# Altium footprint library PcbLib1.PcbLib: 58 footprints (part 1 of 4)
Each footprint in its own frame and in the unit in brackets; x right, y up, seen from the top. Pads: shape width x height; smd on the part's side, far side on the other; paste and mask are expansions set on the pad; w line width, h text height; cw(c..) or ccw(c..) is an arc to the next point about the centre after c.
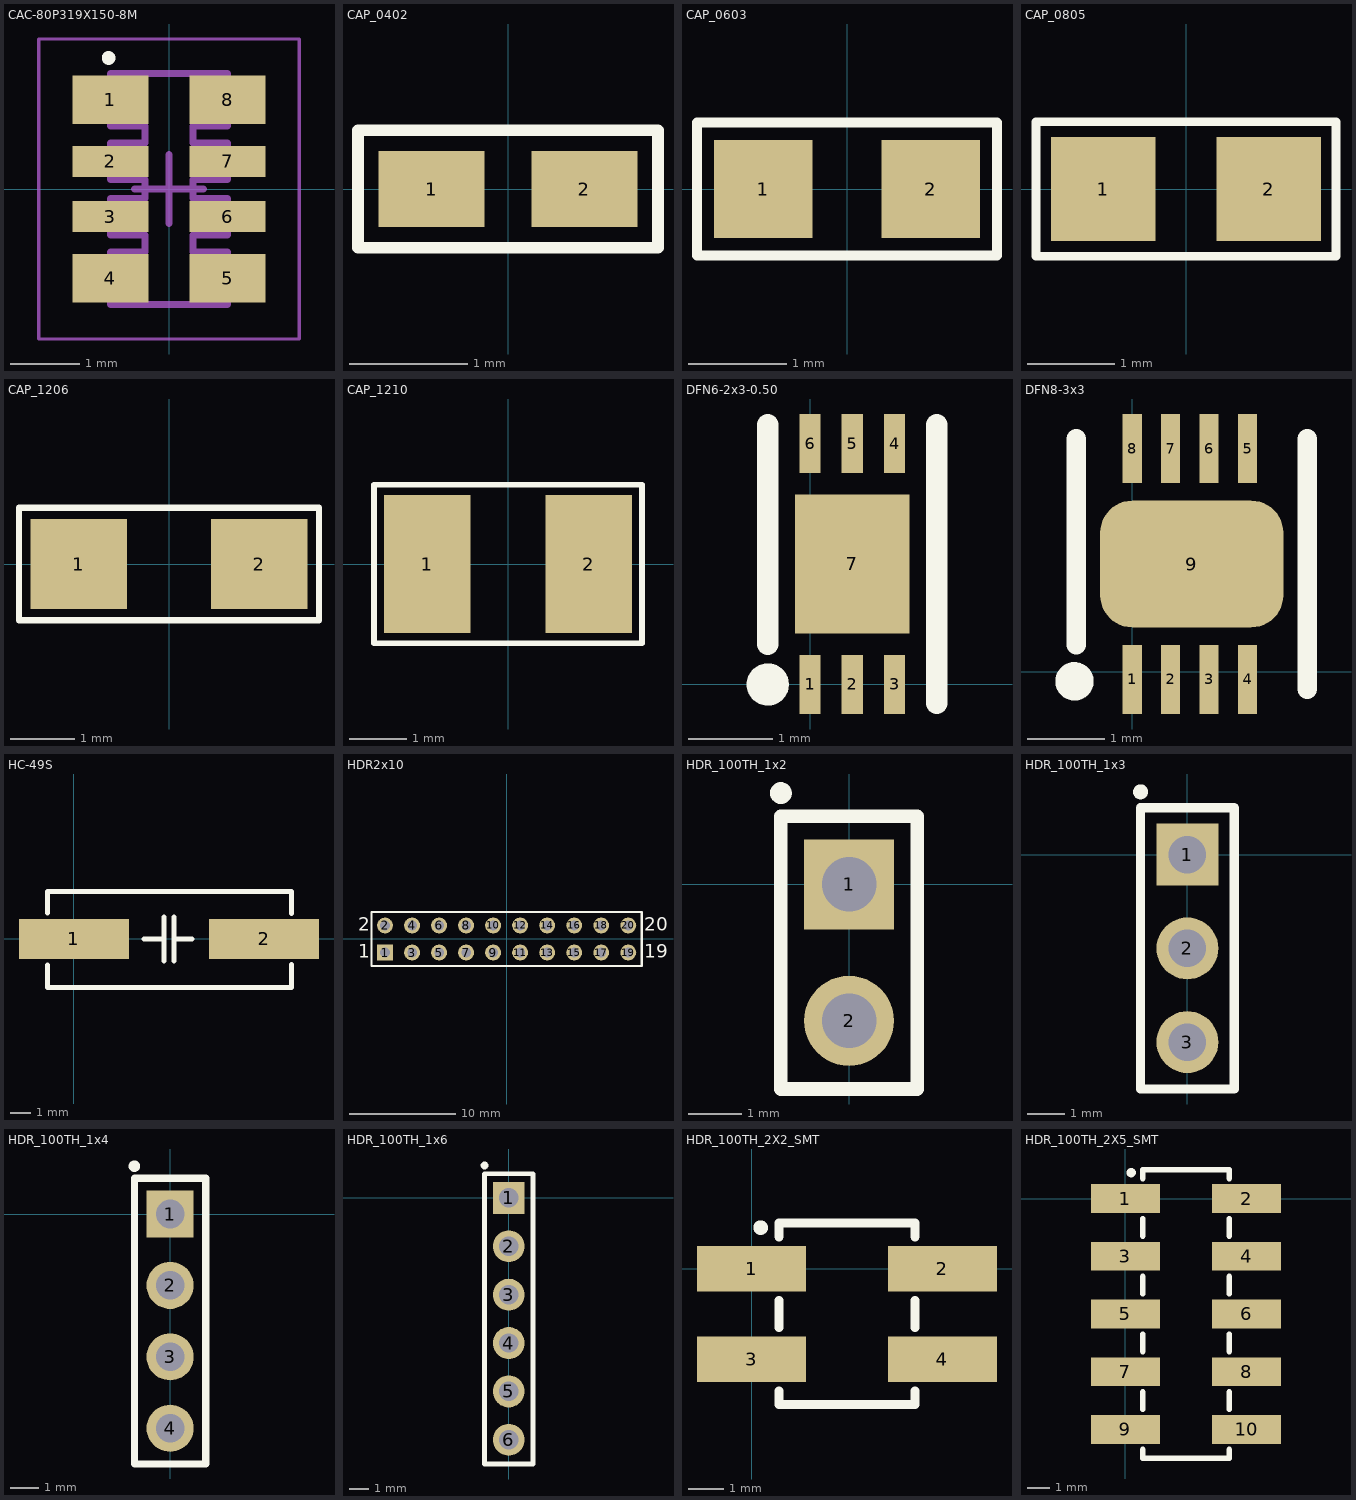
[diagram p0: the footprints below, top view; thin cyan lines are the x and y axes]

## CAC-80P319X150-8M [mm] "Chip Array, ConvexS, 8-Leads, Pitch 0.80mm,  Body 3.20x1.50mm, for Vishay CRA06S"
height 0.6
pads (8):
  rect 1.1x0.7 smd: 1(-0.85,1.295) 4(-0.85,-1.295) 5(0.85,-1.295) 8(0.85,1.295)
  rect 1.1x0.45 smd: 2(-0.85,0.4) 3(-0.85,-0.4) 6(0.85,-0.4) 7(0.85,0.4)
Top Overlay:
  circle w0.1: c-0.875,1.9 r0.05
Mechanical 13:
  lines w0.1: -0.85,-1.675 0.85,-1.675 0.85,-0.915 0.35,-0.915 0.35,-0.665 0.85,-0.665 0.85,-0.135 0.35,-0.135 0.35,0.135 0.85,0.135 0.85,0.665 0.35,0.665 0.35,0.915 0.85,0.915 0.85,1.675 -0.85,1.675 -0.85,0.915 -0.35,0.915 -0.35,0.665 -0.85,0.665 -0.85,0.135 -0.35,0.135 -0.35,-0.135 -0.85,-0.135 -0.85,-0.665 -0.35,-0.665 -0.35,-0.915 -0.85,-0.915 -0.85,-1.675
Mechanical 15:
  lines w0.05: -1.89,-2.175 1.89,-2.175 1.89,2.175 -1.89,2.175 -1.89,-2.175
  lines w0.1: -0.5,0 0.5,0 ; 0,-0.5 0,0.5
3D body: height 0.6, standoff 0, extent -0.825,-1.675 0.825,1.675

## CAP_0402 [mm]
pads (2):
  rect 0.9x0.65 smd: 1(-0.65,0) 2(0.65,0)
Top Overlay:
  lines w0.1: -1.275,-0.5 1.275,-0.5 1.275,0.5 -1.275,0.5 -1.275,-0.5
3D body: height 0.55, standoff 0, extent -0.5,-0.25 0.5,0.25

## CAP_0603 [mm]
pads (2):
  rect 1x1 smd: 1(-0.85,0) 2(0.85,0)
Top Overlay:
  lines w0.1: -1.525,-0.675 -1.525,0.675 1.525,0.675 1.525,-0.675 -1.525,-0.675

## CAP_0805 [mm]
pads (2):
  rect 1.2x1.2 smd: 1(-0.95,0) 2(0.95,0)
Top Overlay:
  lines w0.1: -1.725,-0.775 1.725,-0.775 1.725,0.775 -1.725,0.775 -1.725,-0.775
3D body: height 0.75, standoff 0, extent -1,-0.625 1,0.625

## CAP_1206 [mm]
pads (2):
  rect 1.5x1.4 smd: 1(-1.4,0) 2(1.4,0)
Top Overlay:
  lines w0.1: -2.325,-0.875 2.325,-0.875 2.325,0.875 -2.325,0.875 -2.325,-0.875
3D body: height 1.8, standoff 0, extent -1.5,-0.7 1.5,0.7

## CAP_1210 [mm]
pads (2):
  rect 1.5x2.4 smd: 1(-1.4,0) 2(1.4,0)
Top Overlay:
  lines w0.1: -2.325,-1.375 2.325,-1.375 2.325,1.375 -2.325,1.375 -2.325,-1.375
3D body: height 2, standoff 0, extent -1.5,-1.1 1.5,1.1

## DFN6-2x3-0.50 [mm] "DFN-6 2mm x 3mm, 0.50 BSC"
height 0.75
pads (7):
  rect 0.25x0.7 smd: 1(0,0) 2(0.5,0) 3(1,0) 4(1,2.85) 5(0.5,2.85) 6(0,2.85)
  rect 1.35x1.65 smd: 7(0.5,1.425)
Top Overlay:
  circle w0.25: c-0.5,0 r0.125
  lines w0.254: -0.5,0.475 -0.5,3.075 ; 1.5,-0.225 1.5,3.075

## DFN8-3x3 [mm] "LTC2943"
pads (9):
  rect 0.25x0.9 smd: 1(0,-0.1) 2(0.5,-0.1) 3(1,-0.1) 4(1.5,-0.1) 5(1.5,2.9) 6(1,2.9) 7(0.5,2.9) 8(0,2.9)
  rrect50% 2.38x1.65 smd: 9(0.775,1.4)
Top Overlay:
  circle w0.25: c-0.75,-0.125 r0.125
  lines w0.254: -0.725,0.35 -0.725,3.025 ; 2.275,-0.225 2.275,3.025
3D body: height 0.75, standoff 0, extent -0.725,-0.1 2.275,2.9

## HC-49S [mm] "Crystal"
pads (2):
  rect 5.5x2 smd: 1(0,0) 2(9.5,0)
Top Overlay:
  lines w0.254: -1.325,-1.3 -1.325,-2.425 10.875,-2.425 10.875,-1.275 ; -1.325,1.3 -1.325,2.375 10.875,2.375 10.875,1.275 ; 3.5,0 4.5,0 ; 4.5,-1.1 4.5,1.1 ; 5,-1.1 5,1.1 ; 5,0 5.9,0
3D body: height 0.5, standoff 0, extent -0.95,-2.4 10.45,2.4
3D body: height 3.8, standoff 0, extent -0.25,-1.913 9.75,1.913

## HDR2x10 [mm]
pads (20):
  rect 1.5x1.5 hole 0.9: 1(-11.461,-1.316)
  round 1.5 hole 0.9: 2(-11.461,1.224) 3(-8.921,-1.316) 4(-8.921,1.224) 5(-6.381,-1.316) 6(-6.381,1.224) 7(-3.841,-1.316) 8(-3.841,1.224) 9(-1.301,-1.316) 10(-1.301,1.224) 11(1.239,-1.316) 12(1.239,1.224) 13(3.779,-1.316) 14(3.779,1.224) 15(6.319,-1.316) 16(6.319,1.224) 17(8.859,-1.316) 18(8.859,1.224) 19(11.399,-1.316) 20(11.399,1.224)
Top Overlay:
  lines w0.2: -12.731,-2.586 -10.826,-2.586 12.669,-2.586 12.669,2.494 -10.826,2.494 -12.731,2.494 -12.731,-2.586
  text "20" at 12.923,0.716 h1.27
  text "19" at 12.923,-1.824 h1.27
  text "1" at -14.001,-1.824 h1.27
  text "2" at -14.001,0.716 h1.27

## HDR_100TH_1x2 [mil] "100TH pin header 1x2 vertical"
pads (2):
  rect 66x66 hole 40: 1(0,0)
  round 66 hole 40: 2(0,-100)
Top Overlay:
  circle w10: c-50,67 r3
  lines w10: -50,-150 50,-150 50,50 -50,50 -50,-150

## HDR_100TH_1x3 [mil] "100TH pin header 1x3 vertical"
pads (3):
  rect 66x66 hole 40: 1(0,0)
  round 66 hole 40: 2(0,-100) 3(0,-200)
Top Overlay:
  circle w10: c-50,67 r3
  lines w10: -50,-250 -50,50 50,50 50,-250 -50,-250

## HDR_100TH_1x4 [mil] "100TH pin header 1x4 vertical"
pads (4):
  rect 66x66 hole 40: 1(0,0)
  round 66 hole 40: 2(0,-100) 3(0,-200) 4(0,-300)
Top Overlay:
  circle w10: c-50,67 r3
  lines w10: -50,-350 -50,50 50,50 50,-350 -50,-350

## HDR_100TH_1x6 [mil] "100TH pin header 1x6 vertical"
pads (6):
  rect 66x66 hole 40: 1(0,0)
  round 66 hole 40: 2(0,-100) 3(0,-200) 4(0,-300) 5(0,-400) 6(0,-500)
Top Overlay:
  circle w10: c-50,67 r3
  lines w10: -50,-550 50,-550 50,50 -50,50 -50,-550

## HDR_100TH_2X2_SMT [mil] "100TH pin header, 2x2, SMT"
pads (4):
  rect 120x50 smd: 1(0,0) 2(210,0) 3(0,-100) 4(210,-100)
Top Overlay:
  circle w10: c10,45 r3
  lines w10: 30,-134.61 30,-149.61 180,-149.61 180,-134.61 ; 30,-65 30,-35 ; 30,35 30,50 180,50 180,35 ; 180,-65 180,-35

## HDR_100TH_2X5_SMT [mil] "100TH pin header, 2x5, SMT"
pads (10):
  rect 120x50 smd: 1(0,0) 2(210,0) 3(0,-100) 4(210,-100) 5(0,-200) 6(210,-200) 7(0,-300) 8(210,-300) 9(0,-400) 10(210,-400)
Top Overlay:
  circle w10: c10,45 r3
  lines w10: 30,-435 30,-450 180,-450 180,-435 ; 30,-365 30,-335 ; 30,-265 30,-235 ; 30,-165 30,-135 ; 30,-65 30,-35 ; 30,35 30,50 180,50 180,35 ; 180,-365 180,-335 ; 180,-265 180,-235 ; 180,-165 180,-135 ; 180,-65 180,-35